# EAGLE library part 100DP1T2B4M7QE (library 100DP1T2B4M6QE)
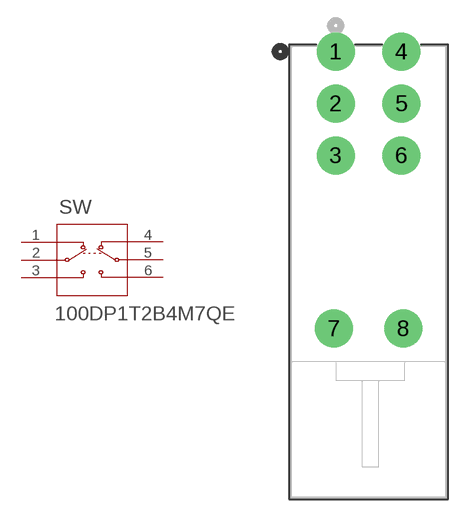
[diagram p0: symbol with the pads of 100DP1T2B4M7QE_EWI; footprint 100DP1T2B4M7QE_EWI]

Designator prefix SW

## 100DP1T2B4M7QE (COPYRIGHT: Copyright (C) 2021 Ultra Librarian. All rights reserved.; MANUFACTURER_PART_NUMBER: 100DP1T2B4M7QE; MFR_NAME: E-Switch)  [100DP1T2B4M7QE_EWI]
1  1  pas
2  2  pas
3  3  pas
4  4  pas
5  5  pas
6  6  pas

## Footprint 100DP1T2B4M7QE_EWI (pad centres in mm)
drill 1.854 pad 2.362: 1 0,0; 2 0,-3.81; 3 0,-7.62; 4 4.826,0; 5 4.826,-3.81; 6 4.826,-7.62; 7 -0.127,-20.32; 8 4.953,-20.32